# Altium schematic symbol library CPLD_Renesas.SchLib: 1 symbol
Pins are listed as number, name and electrical type; pins without a type are passive.

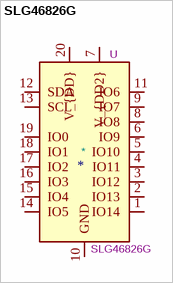
[diagram p0: symbol SLG46826G]

## SLG46826G
designator *  value SLG46826G  Reference: U
ki_keywords: cpld programmable logic low-cost renesas silego; ki_description: GreenPAK Programmable Mixed-Signal Matrix with In-System Programmability, TSSOP-20; ki_fp_filters: TSSOP*4.4x6.5mm*P0.65*; Footprint: Package_SO:TSSOP-20_4.4x6.5mm_P0.65mm; Datasheet: https://www.renesas.com/in/en/document/dst/slg46826-datasheet
pins: 1 IO14, 2 IO13, 3 IO12, 4 IO11, 5 IO10, 6 IO9, 7 V_{DD2}, 8 IO8, 9 IO7, 10 GND, 11 IO6, 12 SDA, 13 SCL, 14 IO5, 15 IO4, 16 IO3, 17 IO2, 18 IO1, 19 IO0, 20 V_{DD}